# Altium footprint library IFX-PG-TO220-3-904-1.PcbLib: 1 footprints
Each footprint in its own frame and in the unit in brackets; x right, y up, seen from the top. Pads: shape width x height; smd on the part's side, far side on the other; paste and mask are expansions set on the pad; w line width, h text height; cw(c..) or ccw(c..) is an arc to the next point about the centre after c.
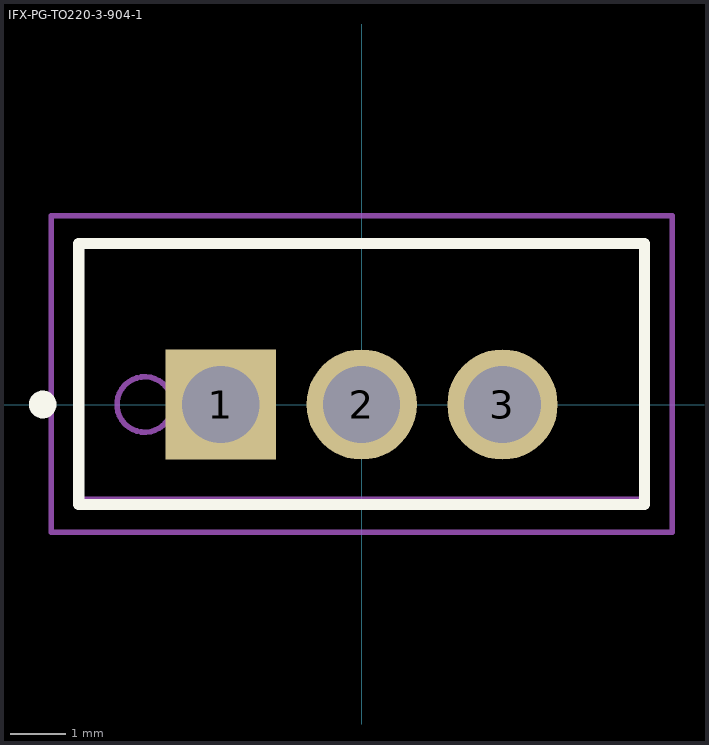
[diagram p0: the footprint, top view; thin cyan lines are the x and y axes]

## IFX-PG-TO220-3-904-1 [mm] "TO,flange mount,2.54 mm pitch, 3 pin, 10.16 mm L X 4.57 mm W X 20.56 mm H body"
height 20.56
pads (3):
  rect 1.99x1.99 hole 1.39 paste+0 mask+0: 1(-2.54,0)
  round 1.99 hole 1.39 paste+0 mask+0: 2(0,0) 3(2.54,0)
Top Overlay:
  circle w0.25: c-5.75,0 r0.125
  lines w0.2: -5.1,-1.8 -5.1,2.9 5.1,2.9 5.1,-1.8 -5.1,-1.8
M3 (ASY_Text_Top):
  text ".DESIGNATOR" at 0,0 h1.2
M13 (CMP_Body_OTL_Top):
  circle w0.1: c-3.912,0 r0.5
  lines w0.1: -5.08,-1.71 -5.08,2.86 5.08,2.86 5.08,-1.71 -5.08,-1.71
M15 (CMP_Courtyard_Top):
  lines w0.1: -0.5,0 0.5,0 ; 0,-0.5 0,0.5 ; -5.6,-2.3 -5.6,3.4 5.6,3.4 5.6,-2.3 -5.6,-2.3
3D body "PG-TO220-3-904_Z8B00198139_V06_3D.stp": height 19.84, standoff -10.77, extent -5.156,-1.72 5.156,2.86